# Altium footprint library Footprints.PcbLib: 2 footprints
Each footprint in its own frame and in the unit in brackets; x right, y up, seen from the top. Pads: shape width x height; smd on the part's side, far side on the other; paste and mask are expansions set on the pad; w line width, h text height; cw(c..) or ccw(c..) is an arc to the next point about the centre after c.
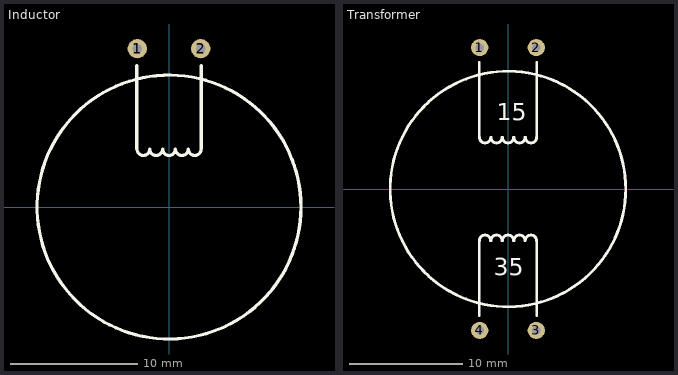
[diagram p0: the footprints below, top view; thin cyan lines are the x and y axes]

## Inductor [mil]
pads (2):
  round 60 hole 30: 1(-98.43,492.13) 2(98.43,492.13)
Top Overlay:
  circle w10: c0,0 r410
  lines w10: -100,180 -100,440 ; -99.37,180 ccw(c-79.69,180) -60,180 ; -59.69,180 ccw(c-40,180) -20.32,180 ; -19.68,180 ccw(c0,180) 19.68,180 ; 20.32,180 ccw(c40,180) 59.69,180 ; 60.31,180 ccw(c80,180) 99.69,180 ; 100,180 100,440
3D body "74270118.stp": height 255.91, standoff 19.69, extent -416.85,-417.32 416.85,417.32

## Transformer [mil]
pads (4):
  round 60 hole 30: 1(-98.43,492.13) 2(98.43,492.13) 3(98.43,-492.13) 4(-98.43,-492.13)
Top Overlay:
  circle w10: c0,0 r410
  lines w10: -100,-440 -100,-180 ; -100,180 -100,440 ; -99.69,-180 cw(c-80,-180) -60.31,-180 ; -99.37,180 ccw(c-79.69,180) -60,180 ; -59.69,-180 cw(c-40,-180) -20.32,-180 ; -59.69,180 ccw(c-40,180) -20.32,180 ; -19.68,-180 cw(c0,-180) 19.68,-180 ; -19.68,180 ccw(c0,180) 19.68,180 ; 20.32,-180 cw(c40,-180) 59.69,-180 ; 20.32,180 ccw(c40,180) 59.69,180 ; 60,-180 cw(c79.69,-180) 99.37,-180 ; 60.31,180 ccw(c80,180) 99.69,180 ; 100,-440 100,-180 ; 100,180 100,440
  text "35" at -50,-300 h60
  text "15" at -40,240 h60
3D body "74270118.stp": height 255.91, standoff 19.69, extent -416.85,-417.32 416.85,417.32